# Altium footprint library PCB - LEADED - SOP50P640X120-38N.PCBLIB: 1 footprints
Each footprint in its own frame and in the unit in brackets; x right, y up, seen from the top. Pads: shape width x height; smd on the part's side, far side on the other; paste and mask are expansions set on the pad; w line width, h text height; cw(c..) or ccw(c..) is an arc to the next point about the centre after c.
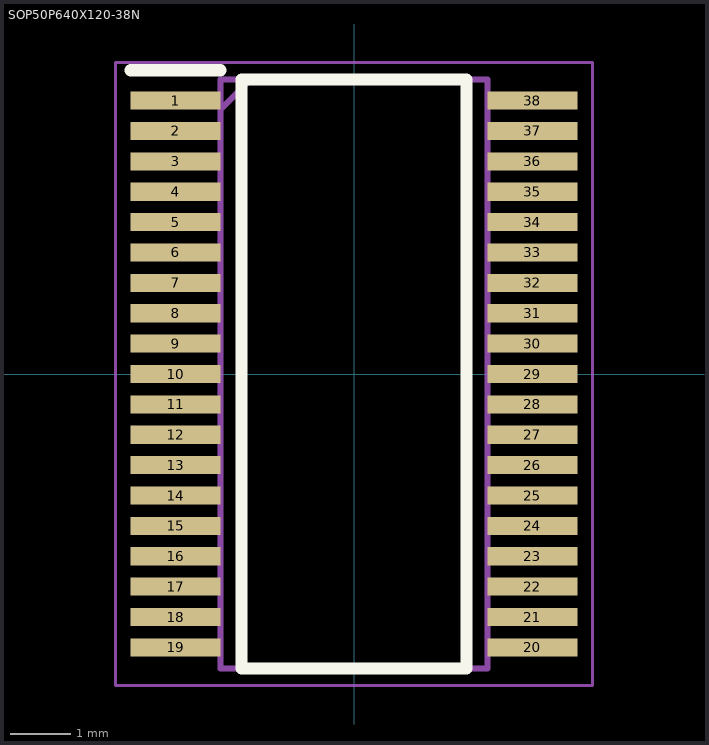
[diagram p0: the footprint, top view; thin cyan lines are the x and y axes]

## SOP50P640X120-38N [mm]
pads (38):
  rect 1.475x0.3 smd: 1(-2.938,4.5) 2(-2.938,4) 3(-2.938,3.5) 4(-2.938,3) 5(-2.938,2.5) 6(-2.938,2) 7(-2.938,1.5) 8(-2.938,1) 9(-2.938,0.5) 10(-2.938,0) 11(-2.938,-0.5) 12(-2.938,-1) 13(-2.938,-1.5) 14(-2.938,-2) 15(-2.938,-2.5) 16(-2.938,-3) 17(-2.938,-3.5) 18(-2.938,-4) 19(-2.938,-4.5) 20(2.938,-4.5) 21(2.938,-4) 22(2.938,-3.5) 23(2.938,-3) 24(2.938,-2.5) 25(2.938,-2) 26(2.938,-1.5) 27(2.938,-1) 28(2.938,-0.5) 29(2.938,0) 30(2.938,0.5) 31(2.938,1) 32(2.938,1.5) 33(2.938,2) 34(2.938,2.5) 35(2.938,3) 36(2.938,3.5) 37(2.938,4) 38(2.938,4.5)
Top Overlay:
  lines w0.2: -3.675,5 -2.2,5 ; -1.85,-4.85 1.85,-4.85 1.85,4.85 -1.85,4.85 -1.85,-4.85
Top Assembly:
  lines w0.1: -2.2,4.35 -1.7,4.85 ; -2.2,-4.85 2.2,-4.85 2.2,4.85 -2.2,4.85 -2.2,-4.85
Top Courtyard:
  lines w0.05: -3.925,-5.125 3.925,-5.125 3.925,5.125 -3.925,5.125 -3.925,-5.125
Top Designator:
  text ".Designator" at -3.904,-5.941 h1
Top Value (Mech13):
  text ".Comment" at -3.937,-6.974 h1
3D body "SN65LVDS388ADBTR.stp": height 1.13, standoff 0, extent -3.2,-4.85 3.2,4.85